# Altium schematic symbol library SN74AHC1G02DCKR.SchLib: 1 symbol
Pins are listed as number, name and electrical type; pins without a type are passive.

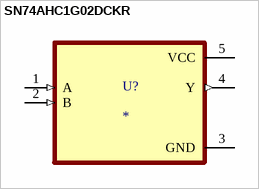
[diagram p0: symbol SN74AHC1G02DCKR]

## SN74AHC1G02DCKR
designator U?
MP: SN74AHC1G02DCKR; Package: None; Price: None; Value: *; Availability: Unavailable
footprint SOT65P210X110-5N
pins: 1 A (in), 2 B (in), 3 GND (power), 4 Y (out), 5 VCC (power)